# EAGLE library part LED_8X8_MATRIX (library LED)
CPD-15088A YGD2/A Green 8x8 LED matrix
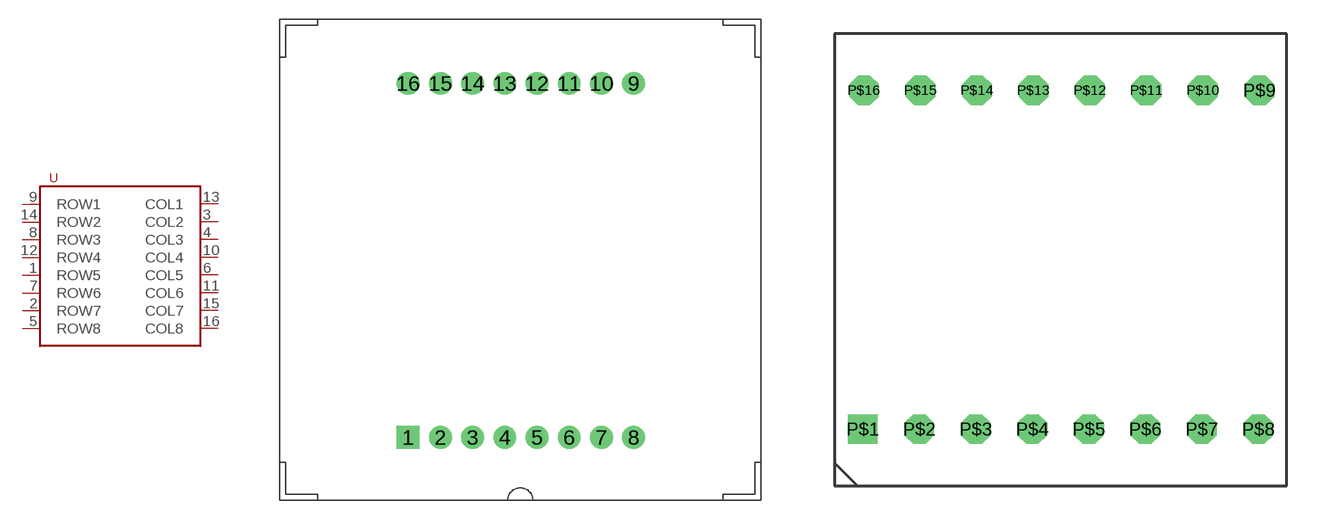
[diagram p1: symbol with the pads of MATRIX_8X8_38MM; footprints MATRIX_8X8_38MM, MATRIX_8X8_20MM]

Designator prefix -

## LED_8X8_MATRIXYGD2/A  [MATRIX_8X8_38MM]
1  ROW5
2  ROW7
3  COL2
4  COL3
5  ROW8
6  COL5
7  ROW6
8  ROW3
9  ROW1
10  COL4
11  COL6
12  ROW4
13  COL1
14  ROW2
15  COL7
16  COL8

## LED_8X8_MATRIX07088BH  [MATRIX_8X8_20MM]
P$1  ROW4
P$2  ROW2
P$3  COL2
P$4  COL3
P$5  ROW1
P$6  COL5
P$7  ROW3
P$8  ROW6
P$9  ROW8
P$10  COL4
P$11  COL6
P$12  ROW5
P$13  COL1
P$14  ROW7
P$15  COL7
P$16  COL8

## Footprint MATRIX_8X8_38MM (pad centres in mm)
CPD-15088 LED Matrix 8x8 38mm Green
drill 0.5 pad 1.8 square: 1 10.16,-33.02
drill 0.5 pad 1.8: 2 12.7,-33.02; 3 15.24,-33.02; 4 17.78,-33.02; 5 20.32,-33.02; 6 22.86,-33.02; 7 25.4,-33.02; 8 27.94,-33.02; 9 27.94,-5.08; 10 25.4,-5.08; 11 22.86,-5.08; 12 20.32,-5.08; 13 17.78,-5.08; 14 15.24,-5.08; 15 12.7,-5.08; 16 10.16,-5.08

## Footprint MATRIX_8X8_20MM (pad centres in mm)
LED Matrix 8x8 20mm RED 07088BH Rows - anodes
drill 0.8 square: P$1 1.25,2.5
drill 0.8 octagon: P$2 3.75,2.5; P$3 6.25,2.5; P$4 8.75,2.5; P$5 11.25,2.5; P$6 13.75,2.5; P$7 16.25,2.5; P$8 18.75,2.5; P$9 18.8,17.5; P$10 16.3,17.5; P$11 13.8,17.5; P$12 11.3,17.5; P$13 8.8,17.5; P$14 6.3,17.5; P$15 3.8,17.5; P$16 1.3,17.5